# Altium footprint library T11.PcbLib: 36 footprints (part 1 of 3)
Each footprint in its own frame and in the unit in brackets; x right, y up, seen from the top. Pads: shape width x height; smd on the part's side, far side on the other; paste and mask are expansions set on the pad; w line width, h text height; cw(c..) or ccw(c..) is an arc to the next point about the centre after c.
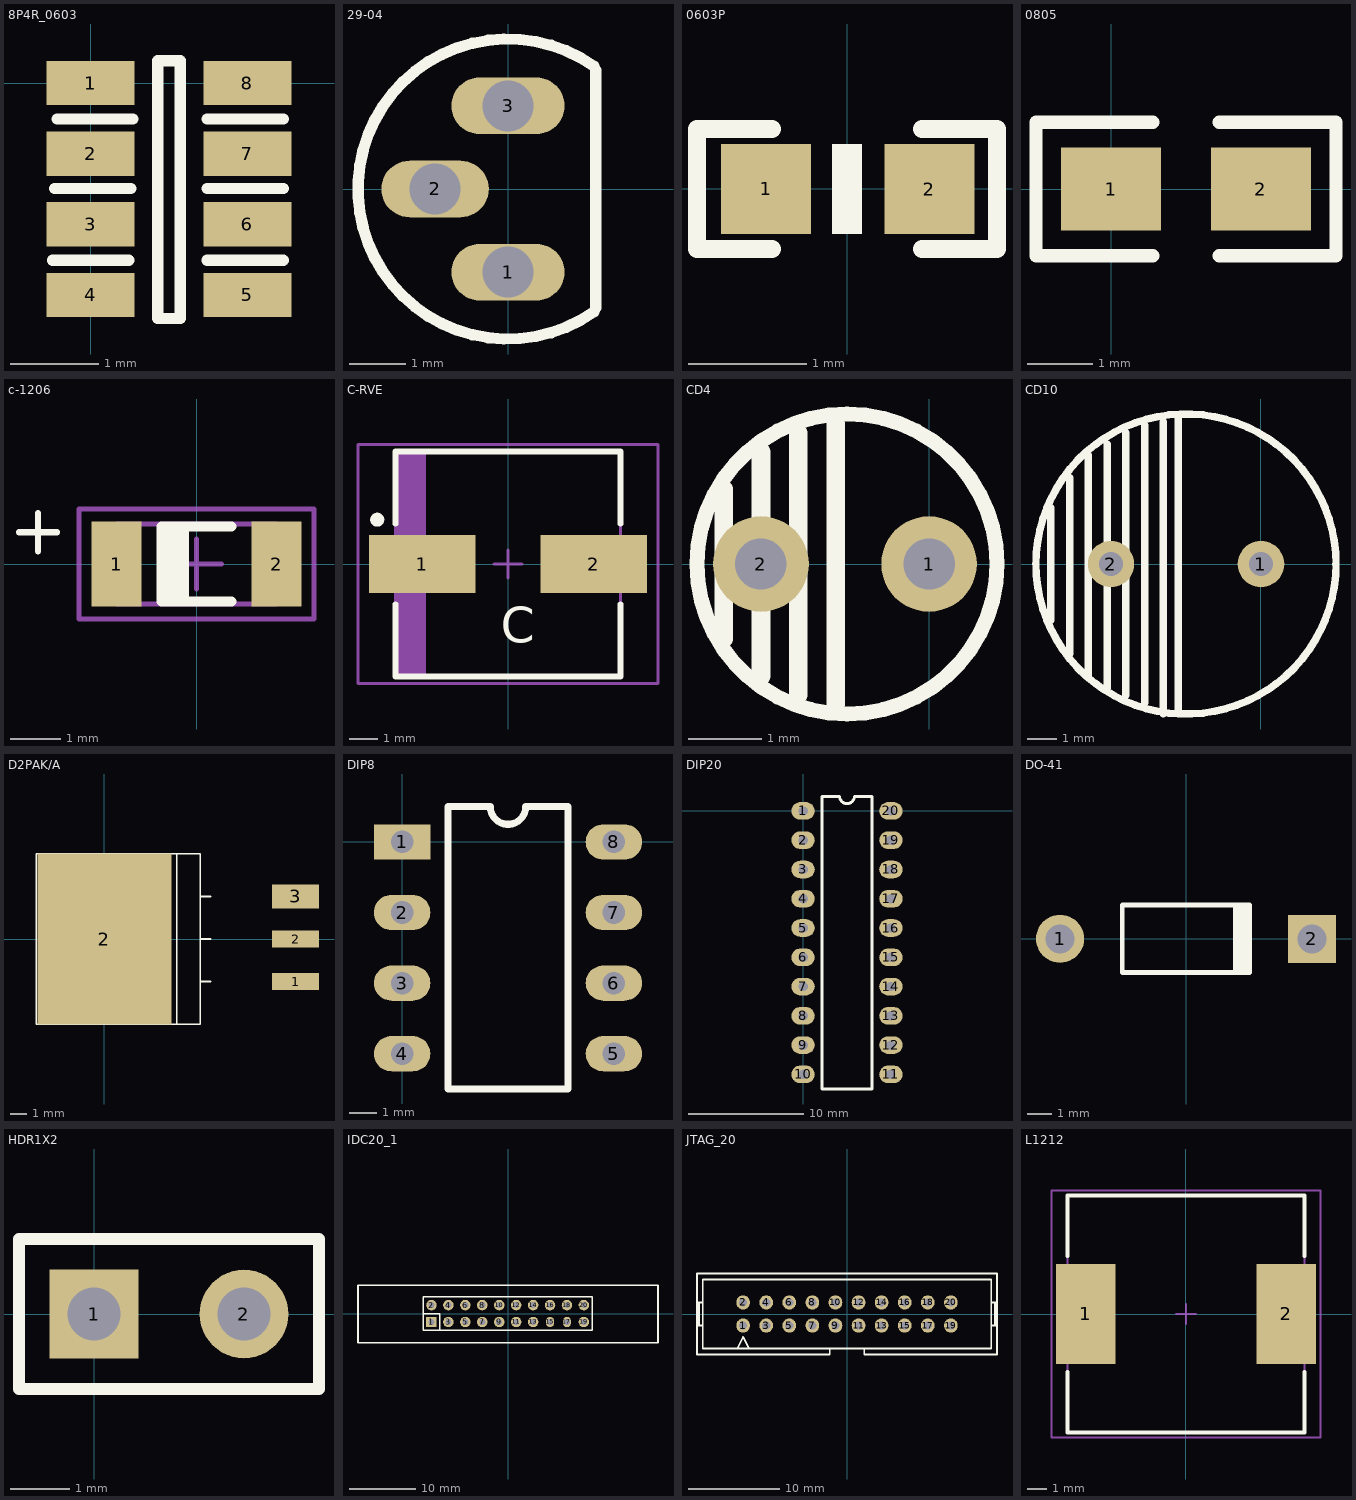
[diagram p0: the footprints below, top view; thin cyan lines are the x and y axes]

## 8P4R_0603 [mm]
pads (8):
  rect 1x0.5 smd: 1(0,0) 2(0,-0.8) 3(0,-1.6) 4(0,-2.4) 5(1.778,-2.4) 6(1.778,-1.6) 7(1.778,-0.8) 8(1.778,0)
Top Overlay:
  lines w0.127: -0.432,-2.007 0.432,-2.007 ; -0.406,-1.194 0.457,-1.194 ; -0.381,-0.406 0.483,-0.406 ; 1.321,-2.007 2.184,-2.007 ; 1.321,-1.194 2.184,-1.194 ; 1.321,-0.406 2.184,-0.406 ; 0.762,-2.667 1.016,-2.667 1.016,0.254 0.762,0.254 0.762,-2.667

## 29-04 [mm] "TO, Flat Index; 3 In-Line, Axial Leads; Body Dia. 4.8mm; Leads 0.48 x 0.51 mm (max)"
height 5.33
pads (3):
  oval 2x1 hole 0.9: 1(0,-1.47) 3(0,1.47)
  oval 1.9x1 hole 0.9: 2(-1.288,0)
Top Overlay:
  lines w0.2: 1.52,-2.171 cw(c0,0) 1.52,2.171 ; 1.55,-2.1 1.55,2.1

## 0603P [mil]
pads (2):
  rect 30x30 smd: 1(-27,0) 2(27.5,-0.06)
Top Overlay:
  region: 5,-15.06 5,14.94 -5,14.94 -5,-15.06
  lines w6: -25,-20.06 -50,-20.06 -50,19.94 -25,19.94 ; 25,-20.06 50,-20.06 50,19.94 25,19.94

## 0805 [mil]
pads (2):
  rect 60x50 smd: 1(0,0) 2(90,0)
Top Overlay:
  lines w8: 25,-40 -45,-40 -45,40 25,40 ; 65,-40 135,-40 135,40 65,40

## c-1206 [mm] "Chip Inductor, 2-Leads, Body 3.2x1.6mm, IPC Medium Density"
height 0.6
pads (2):
  rect 1x1.7 smd: 1(-1.6,0) 2(1.6,0)
Top Overlay:
  rectangle: -0.7,-0.75 -0.15,0.75
  lines w0.127: -3.556,0.635 -2.794,0.635 ; -3.175,0.254 -3.175,1.016
  lines w0.2: 0.7,-0.75 -0.7,-0.75 -0.7,0.75 0.7,0.75
Mechanical 13:
  lines w0.1: -1.6,-0.8 1.6,-0.8 1.6,0.8 -1.6,0.8 -1.6,-0.8
Mechanical 15:
  lines w0.1: -0.5,0 0.5,0 ; 0,-0.5 0,0.5 ; -2.35,-1.1 2.35,-1.1 2.35,1.1 -2.35,1.1 -2.35,-1.1
3D body: height 0.6, standoff 0, extent -1.6,-0.8 1.6,0.8

## C-RVE [mm] "Precision Wire Wound Inductor, 2-Leads, Body 8.0x8.0mm, IPC Medium Density"
height 10.3
pads (2):
  rect 3.8x2.05 smd: 1(-3.048,0) 2(3.048,0)
Top Overlay:
  circle w0.25: c-4.65,1.575 r0.125
  lines w0.2: -4,-1.425 -4,-4 4,-4 4,-1.425 ; -4,1.425 -4,4 4,4 4,1.425
  text "C" at -0.254,-2.794 h1.27
Mechanical 13:
  rectangle: -4.001,-4.001 -2.925,3.999
  lines w0.1: -4,-4 4,-4 4,4 -4,4 -4,-4
Mechanical 15:
  lines w0.1: -0.5,0 0.5,0 ; 0,-0.5 0,0.5 ; -5.334,-4.25 5.334,-4.25 5.334,4.25 -5.334,4.25 -5.334,-4.25
3D body: height 10.3, standoff 0, extent -4,-4 4,4

## CD4 [mm]
pads (2):
  round 1.3 hole 0.7: 1(0,0) 2(-2.286,0)
Top Overlay:
  circle w0.203: c-1.116,0 r2.04
  lines w0.254: -2.794,-1.016 -2.794,1.016 ; -2.286,-1.524 -2.286,1.524 ; -1.778,-1.778 -1.778,1.778 ; -1.27,-1.905 -1.27,1.905

## CD10 [mil]
pads (2):
  round 62 hole 31.5: 1(0,0) 2(-200,0)
Top Overlay:
  circle w10: c-100,0 r200
  lines w10: -280,-75 -280,75 ; -255,-120 -255,115 ; -230,-150 -230,145 ; -205,-165 -205,160 ; -180,-175 -180,175 ; -155,-185 -155,185 ; -130,-200 -130,190 ; -110,-200 -110,195

## D2PAK/A [mm]
pads (4):
  rect 2.8x1 smd: 1(11.4,-2.54) 2(11.4,0)
  rect 8x10.2 smd: 2(0,0)
  rect 2.8x1.42 smd: 3(11.4,2.54)
Top Overlay:
  lines w0.1: 4.318,-5.08 4.318,5.08 ; 5.715,-2.54 6.35,-2.54 ; 5.715,0 6.35,0 ; 5.715,2.54 6.35,2.54 ; -4.064,-5.08 5.715,-5.08 5.715,5.08 -4.064,5.08 -4.064,4.318 -4.064,2.921 -4.064,-2.794 -4.064,-4.572 -4.064,-5.08

## DIP8 [mil]
pads (8):
  rect 80x50 hole 32: 1(0,0)
  oval 80x50 hole 32: 2(0,-100) 3(0,-200) 4(0,-300) 5(300,-300) 6(300,-200) 7(300,-100) 8(300,0)
Top Overlay:
  lines w10: 65,-350 65,50 125,50 ccw(c150,50) 175,50 235,50 235,-350 65,-350

## DIP20 [mil]
pads (20):
  oval 80x60 hole 32: 1(0,0) 2(0,-100) 3(0,-200) 4(0,-300) 5(0,-400) 6(0,-500) 7(0,-600) 8(0,-700) 9(0,-800) 10(0,-900) 11(300,-900) 12(300,-800) 13(300,-700) 14(300,-600) 15(300,-500) 16(300,-400) 17(300,-300) 18(300,-200) 19(300,-100) 20(300,0)
Top Overlay:
  lines w10: 65,-950 235,-950 235,50 175,50 cw(c150,50) 125,50 65,50 65,-950

## DO-41 [mm] "Diode, Axial; Body 5.2 x 2.7 mm (LxDia. max), Lead Dia. 0.86 mm (max)"
height 2.8
pads (2):
  round 2 hole 1.2: 1(-5.23,0)
  rect 2x2 hole 1.2: 2(5.23,0)
Top Overlay:
  rectangle: 1.949,-1.413 2.749,1.387
  lines w0.2: 2.65,-1.4 -2.65,-1.4 -2.65,1.4 2.65,1.4

## HDR1X2 [mm] "Connector; Header; 2 Position"
pads (2):
  rect 1.5x1.5 hole 0.9: 1(0,0)
  round 1.5 hole 0.9: 2(2.54,0)
Top Overlay:
  lines w0.2: -1.27,-1.27 3.81,-1.27 3.81,1.27 -1.27,1.27 -1.27,-1.27

## IDC20_1 [mm]
pads (20):
  rect 1.575x1.575 hole 0.9: 1(-11.476,-1.2)
  round 1.575 hole 0.9: 2(-11.476,1.34) 3(-8.936,-1.2) 4(-8.936,1.34) 5(-6.396,-1.2) 6(-6.396,1.34) 7(-3.856,-1.2) 8(-3.856,1.34) 9(-1.316,-1.2) 10(-1.316,1.34) 11(1.224,-1.2) 12(1.224,1.34) 13(3.764,-1.2) 14(3.764,1.34) 16(6.304,1.34) 18(8.844,1.34) 19(11.384,-1.2) 20(11.384,1.34)
  oval 1.2x1.575 hole 0.9: 15(6.304,-1.2)
  oval 1.15x1.575 hole 0.9: 17(8.844,-1.2)
Top Overlay:
  lines w0.2: -12.746,0.07 -10.206,0.07 -10.206,-2.47 ; -12.746,-2.47 -12.746,2.61 12.654,2.61 12.654,-2.47 -12.746,-2.47
  lines w0.254: -22.5,-4.3 22.5,-4.3 22.5,4.3 -22.5,4.3 -22.5,-4.3

## JTAG_20 [mm]
pads (20):
  oval 1.5x1.575 hole 0.9: 1(-11.43,-1.27) 2(-11.43,1.27) 3(-8.89,-1.27) 4(-8.89,1.27) 5(-6.35,-1.27) 6(-6.35,1.27) 7(-3.81,-1.27) 8(-3.81,1.27) 9(-1.27,-1.27) 10(-1.27,1.27) 11(1.27,-1.27) 12(1.27,1.27) 13(3.81,-1.27) 14(3.81,1.27) 15(6.35,-1.27) 16(6.35,1.27) 17(8.89,-1.27) 18(8.89,1.27) 19(11.43,-1.27) 20(11.43,1.27)
Top Overlay:
  lines w0.203: -16.51,-1.27 -15.875,-1.27 ; -16.51,1.27 -15.875,1.27 ; -16.298,-1.27 -16.298,1.27 ; -12.065,-3.81 -11.43,-2.54 -10.795,-3.81 ; -8.625,-4.445 -1.905,-4.445 -1.905,-3.81 ; -8.255,-4.445 -16.51,-4.445 -16.51,4.445 16.51,4.445 16.51,-4.445 8.255,-4.445 1.905,-4.445 1.905,-3.81 ; 15.875,-1.27 16.51,-1.27 ; 15.875,1.27 16.51,1.27 ; 16.298,-1.27 16.298,1.27 ; -1.905,-3.81 -15.875,-3.81 -15.875,3.81 15.875,3.81 15.875,-3.81 1.905,-3.81 ; -1.905,-3.81 1.905,-3.81

## L1212 [mm] "Precision Wire Wound Inductor, 2-Leads, Body 12.0x12.0mm, IPC Medium Density"
height 8
pads (2):
  rect 3x5.05 smd: 1(-5.075,0) 2(5.075,0)
Top Overlay:
  lines w0.2: -6,-2.925 -6,-6 6,-6 6,-2.925 ; -6,2.925 -6,6 6,6 6,2.925
Mechanical 13:
  lines w0.1: -6,-6 6,-6 6,6 -6,6 -6,-6
Mechanical 15:
  lines w0.1: -0.5,0 0.5,0 ; 0,-0.5 0,0.5 ; -6.825,-6.25 6.825,-6.25 6.825,6.25 -6.825,6.25 -6.825,-6.25
3D body: height 8, standoff 0, extent -6,-6 6,6